# Altium footprint library Terminial_Block_13_5_0mm.PcbLib: 1 footprints
Each footprint in its own frame and in the unit in brackets; x right, y up, seen from the top. Pads: shape width x height; smd on the part's side, far side on the other; paste and mask are expansions set on the pad; w line width, h text height; cw(c..) or ccw(c..) is an arc to the next point about the centre after c.
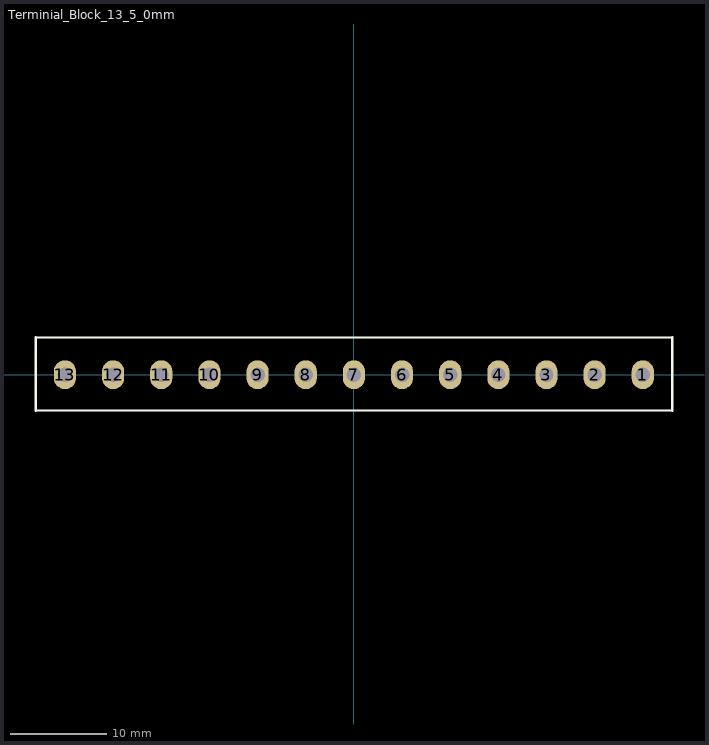
[diagram p0: the footprint, top view; thin cyan lines are the x and y axes]

## Terminial_Block_13_5_0mm [mm]
pads (13):
  oval 2.3x3 hole 1.5: 1(30,0) 2(25,0) 3(20,0) 4(15,0) 5(10,0) 6(5,0) 7(0,0) 8(-5,0) 9(-10,0) 10(-15,0) 11(-20,0) 12(-25,0) 13(-30,0)
Top Overlay:
  lines w0.203: -33.025,-3.725 33.05,-3.725 ; -33.025,3.875 33.05,3.875
  lines w0.254: -33.025,-3.725 -33.025,3.875 ; 33.05,-3.725 33.05,3.875
3D body: height 10, standoff -4, extent -33.05,-3.75 33.05,3.85